# Altium schematic symbol library APTD1608LSECKJ3-PF.SchLib: 1 symbol
Pins are listed as number, name and electrical type; pins without a type are passive.

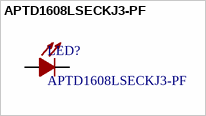
[diagram p0: symbol APTD1608LSECKJ3-PF]

## APTD1608LSECKJ3-PF
designator LED?
Led Red 0603 2mA 1.8V 50mcd 84mW; Mfr_Name: Kingbright
footprint LED_APTD1608LSECKJ3-PF_KNB
pins: 1 C, 2 A